# Altium integrated library ReflowOven_INTLIB.IntLib: 18 symbols
Pins are listed as number, name and electrical type; pins without a type are passive.

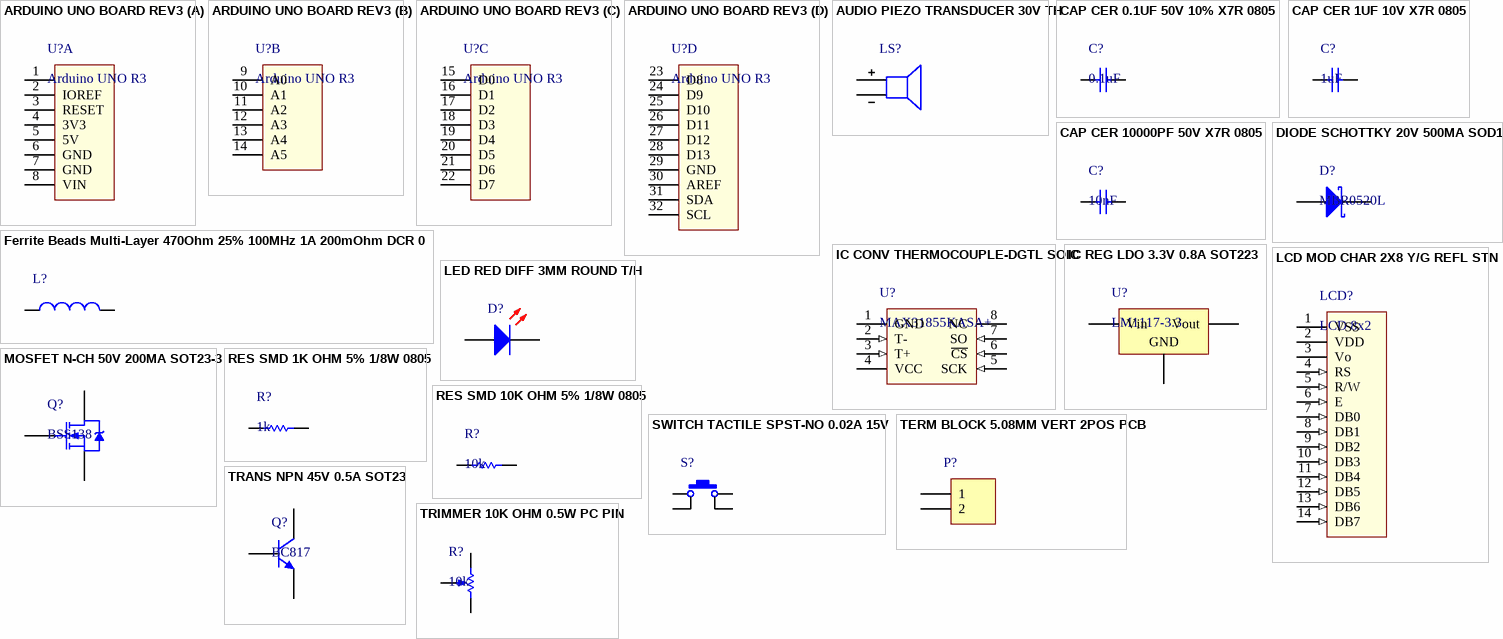
[diagram p0: symbols ARDUINO UNO BOARD REV3 to TRIMMER 10K OHM 0.5W PC PIN]

## ARDUINO UNO BOARD REV3
designator U?, comment Arduino UNO R3
ARDUINO UNO BOARD REV3; Manufacturer Part Number: A000066; Board Type: Evaluation Platform; Core Processor: AVR; For Use With/Related Products: ATmega328P; Contents: Board(s); Supplier 1: Digi-Key; Manufacturer: Arduino; RoHS: RoHS Compliant; Category: Development Boards, Kits, Programmers; Stock 1: 3014; Pricing 1: 1=21.49 (USD); Part Status: Active; Type: MCU 8-Bit; Operating System: -; Platform: Arduino Uno; Mounting Type: Fixed; ComponentLink1URL: http://media.digikey.com/pdf/Data%20Sheets/Arduino%20PDFs/A000046.pdf; ComponentLink1Description: http://media.digikey.com/pdf/Data%20Sheets/Arduino%20PDFs/A000046.pdf; Supplier Part Number 1: 1050-1024-ND
footprint ARDUINO SHIELD
part A pins: 1, 2 IOREF, 3 RESET, 4 3V3, 5 5V, 6 GND, 7 GND, 8 VIN
part B pins: 9 A0, 10 A1, 11 A2, 12 A3, 13 A4, 14 A5
part C pins: 15 D0, 16 D1, 17 D2, 18 D3, 19 D4, 20 D5, 21 D6, 22 D7
part D pins: 23 D8, 24 D9, 25 D10, 26 D11, 27 D12, 28 D13, 29 GND, 30 AREF, 31 SDA, 32 SCL

## AUDIO PIEZO TRANSDUCER 30V TH
designator LS?, comment Buzzer  (value not drawn)
AUDIO PIEZO TRANSDUCER 30V TH; Manufacturer: TDK Corporation; Manufacturer Part Number: PS1240P02BT; Driver Circuitry: Transducer, Externally Driven; Input Type: Zero-Peak Signal; Voltage - Rated: 3V; Voltage Range: 30V (Max); Frequency: 4kHz; Operating Mode: Single Tone; Sound Pressure Level: 60dB @ 3V, 10cm; Port Location: Top; Supplier 1: Digi-Key; RoHS: RoHS Compliant; Category: Audio Products; Stock 1: 23730; Pricing 1: 1=0.72, 10=0.622, 100=0.3889, 250=0.37776 (USD); Packaging: Cut Tape (CT); Part Status: Active; Technology: Piezo; Duration: -; Current - Supply: -; Operating Temperature: -10°C ~ 70°C; Approvals: -; Ratings: -; Mounting Type: Through Hole; Termination: PC Pins; Size / Dimension: 0.480" Dia (12.20mm); Height - Seated (Max): 0.307" (7.80mm); ComponentLink1URL: https://product.tdk.com/info/en/catalog/datasheets/ef532_ps.pdf; ComponentLink1Description: https://product.tdk.com/info/en/catalog/datasheets/ef532_ps.pdf; Supplier Part Number 1: 445-2525-1-ND
footprint BUZZER 12x6MM
pins: 1, 2

## CAP CER 0.1UF 50V 10% X7R 0805
designator C?, comment 0.1uF
CAP CER 0.1UF 50V 10% X7R 0805; Manufacturer: Kyocera / AVX; Manufacturer Part Number: 08055C104KAT2A; Capacitance: 100 nF; Supplier 1: Digikey; Stock 1: 4100743; Pricing 1: 1=0.1, 10=0.036, 25=0.026, 50=0.0194, 100=0.0158, 250=0.0132, 500=0.0113, 1000=0.0089 (USD); Case Size/Dimension: 0805; Dielectric: X7R; Tolerance (%): ±10 %; Rated Voltage: 50 V; ComponentLink1URL: https://datasheet.ciiva.com/150/cx7r-150257.pdf; ComponentLink1Description: https://datasheet.ciiva.com/150/cx7r-150257.pdf; ComponentLink2URL: https://datasheet.ciiva.com/150/cx7r-150258.pdf; ComponentLink2Description: https://datasheet.ciiva.com/150/cx7r-150258.pdf; ComponentLink3URL: https://datasheet.ciiva.com/19475/2009691-19475858.pdf; ComponentLink3Description: https://datasheet.ciiva.com/19475/2009691-19475858.pdf; ComponentLink4URL: https://datasheet.ciiva.com/150/cx7r-150259.pdf; ComponentLink4Description: https://datasheet.ciiva.com/150/cx7r-150259.pdf; ComponentLink5URL: https://datasheet.ciiva.com/11786/0900766b802d4698-11786116.pdf; ComponentLink5Description: https://datasheet.ciiva.com/11786/0900766b802d4698-11786116.pdf; ComponentLink6URL: https://datasheet.ciiva.com/16199/cx7r-16199014.pdf; ComponentLink6Description: https://datasheet.ciiva.com/16199/cx7r-16199014.pdf; ComponentLink7URL: https://datasheet.ciiva.com/16536/cx7r-16536873.pdf; ComponentLink7Description: https://datasheet.ciiva.com/16536/cx7r-16536873.pdf; ComponentLink8URL: https://datasheet.ciiva.com/16536/cx7r-16536875.pdf; ComponentLink8Description: https://datasheet.ciiva.com/16536/cx7r-16536875.pdf; ComponentLink9URL: https://datasheet.ciiva.com/25901/cx7r-25901179.pdf; ComponentLink9Description: https://datasheet.ciiva.com/25901/cx7r-25901179.pdf; ComponentLink10URL: https://datasheet.ciiva.com/11504/cx7r-11504044.pdf; ComponentLink10Description: https://datasheet.ciiva.com/11504/cx7r-11504044.pdf; ComponentLink11URL: https://datasheet.ciiva.com/2988/cx7r-2988014.pdf; ComponentLink11Description: https://datasheet.ciiva.com/2988/cx7r-2988014.pdf; ComponentLink12URL: https://datasheet.ciiva.com/5416/cx7r-5416959.pdf; ComponentLink12Description: https://datasheet.ciiva.com/5416/cx7r-5416959.pdf; ComponentLink13URL: https://datasheet.ciiva.com/7812/cx7r-7812079.pdf; ComponentLink13Description: https://datasheet.ciiva.com/7812/cx7r-7812079.pdf; Supplier Part Number 1: 478-1395-1-ND
footprint CAP 0805 M (Chip Capacitor, 2-Leads, Body 2,00x1,25mm, IPC Low Density)
pins: 1, 2

## CAP CER 1UF 10V X7R 0805
designator C?, comment 1uF
CAP CER 1UF 10V X7R 0805; Manufacturer: Kyocera / AVX; Manufacturer Part Number: 0805ZC105KAT2A; Capacitance: 1 µF; Tolerance (%): ±10 %; Supplier 1: Digikey; Stock 1: 767075; Pricing 1: 1=0.12, 10=0.083, 25=0.0604, 50=0.047, 100=0.039, 250=0.0322, 500=0.0273, 1000=0.0226 (USD); Case Size/Dimension: 0805; Dielectric: X7R; Rated Voltage: 10 V; ComponentLink1URL: https://datasheet.ciiva.com/2988/cx7r-2988071.pdf; ComponentLink1Description: https://datasheet.ciiva.com/2988/cx7r-2988071.pdf; ComponentLink2URL: https://datasheet.ciiva.com/2988/cx7r-2988072.pdf; ComponentLink2Description: https://datasheet.ciiva.com/2988/cx7r-2988072.pdf; ComponentLink3URL: https://datasheet.ciiva.com/14601/70001075-14601048.pdf; ComponentLink3Description: https://datasheet.ciiva.com/14601/70001075-14601048.pdf; ComponentLink4URL: https://datasheet.ciiva.com/14594/70001075-14594329.pdf; ComponentLink4Description: https://datasheet.ciiva.com/14594/70001075-14594329.pdf; ComponentLink5URL: https://datasheet.ciiva.com/25901/cx7r-25901193.pdf; ComponentLink5Description: https://datasheet.ciiva.com/25901/cx7r-25901193.pdf; ComponentLink6URL: https://datasheet.ciiva.com/15165/getdatasheetpartid-71567-15165451.pdf; ComponentLink6Description: https://datasheet.ciiva.com/15165/getdatasheetpartid-71567-15165451.pdf; ComponentLink7URL: https://datasheet.ciiva.com/151/cx7r-151916.pdf; ComponentLink7Description: https://datasheet.ciiva.com/151/cx7r-151916.pdf; ComponentLink8URL: https://datasheet.ciiva.com/151/cx7r-151917.pdf; ComponentLink8Description: https://datasheet.ciiva.com/151/cx7r-151917.pdf; ComponentLink9URL: https://datasheet.ciiva.com/151/cx7r-151918.pdf; ComponentLink9Description: https://datasheet.ciiva.com/151/cx7r-151918.pdf; ComponentLink10URL: https://datasheet.ciiva.com/11787/0900766b80ed4be2-11787102.pdf; ComponentLink10Description: https://datasheet.ciiva.com/11787/0900766b80ed4be2-11787102.pdf; ComponentLink11URL: https://datasheet.ciiva.com/7812/84526-7812223.pdf; ComponentLink11Description: https://datasheet.ciiva.com/7812/84526-7812223.pdf; ComponentLink12URL: https://datasheet.ciiva.com/19475/2011248-19475855.pdf; ComponentLink12Description: https://datasheet.ciiva.com/19475/2011248-19475855.pdf; Supplier Part Number 1: 478-1405-6-ND
footprint CAP 0805 M (Chip Capacitor, 2-Leads, Body 2,00x1,25mm, IPC Low Density)
pins: 1, 2

## CAP CER 10000PF 50V X7R 0805
designator C?, comment 10nF
CAP CER 10000PF 50V X7R 0805; Manufacturer: Kyocera / AVX; Manufacturer Part Number: 0805-5C-103-KAT-2A; Tolerance (%): ±10 %; Supplier 1: Digikey; Stock 1: 595858; Pricing 1: 1=0.1, 10=0.032, 25=0.0232, 50=0.0174, 100=0.0143, 250=0.0119, 500=0.0102, 1000=0.008 (USD); Capacitance: 10 nF; Case Size/Dimension: 0805; Dielectric: X7R; Rated Voltage: 50 V; ComponentLink1URL: https://datasheet.ciiva.com/150/cx7r-150245.pdf; ComponentLink1Description: https://datasheet.ciiva.com/150/cx7r-150245.pdf; ComponentLink2URL: https://datasheet.ciiva.com/150/cx7r-150246.pdf; ComponentLink2Description: https://datasheet.ciiva.com/150/cx7r-150246.pdf; ComponentLink3URL: https://datasheet.ciiva.com/150/cx7r-150247.pdf; ComponentLink3Description: https://datasheet.ciiva.com/150/cx7r-150247.pdf; ComponentLink4URL: https://datasheet.ciiva.com/7812/cx7r-7812071.pdf; ComponentLink4Description: https://datasheet.ciiva.com/7812/cx7r-7812071.pdf; ComponentLink5URL: https://datasheet.ciiva.com/7812/1679506-7812072.pdf; ComponentLink5Description: https://datasheet.ciiva.com/7812/1679506-7812072.pdf; ComponentLink6URL: https://datasheet.ciiva.com/14601/70001075-14601992.pdf; ComponentLink6Description: https://datasheet.ciiva.com/14601/70001075-14601992.pdf; ComponentLink7URL: https://datasheet.ciiva.com/19475/2009421-19475896.pdf; ComponentLink7Description: https://datasheet.ciiva.com/19475/2009421-19475896.pdf; ComponentLink8URL: https://datasheet.ciiva.com/7812/cx7r-7812073.pdf; ComponentLink8Description: https://datasheet.ciiva.com/7812/cx7r-7812073.pdf; ComponentLink9URL: https://datasheet.ciiva.com/11464/cx7r-11464361.pdf; ComponentLink9Description: https://datasheet.ciiva.com/11464/cx7r-11464361.pdf; ComponentLink10URL: https://datasheet.ciiva.com/2988/cx7r-2988011.pdf; ComponentLink10Description: https://datasheet.ciiva.com/2988/cx7r-2988011.pdf; ComponentLink11URL: https://datasheet.ciiva.com/5416/cx7r-218113-5416700.pdf; ComponentLink11Description: https://datasheet.ciiva.com/5416/cx7r-218113-5416700.pdf; ComponentLink12URL: https://datasheet.ciiva.com/14586/70001075-14586685.pdf; ComponentLink12Description: https://datasheet.ciiva.com/14586/70001075-14586685.pdf; ComponentLink13URL: https://datasheet.ciiva.com/11788/0900766b802d4698-11788126.pdf; ComponentLink13Description: https://datasheet.ciiva.com/11788/0900766b802d4698-11788126.pdf; Supplier Part Number 1: 478-1383-6-ND
footprint CAP 0805 M (Chip Capacitor, 2-Leads, Body 2,00x1,25mm, IPC Low Density)
pins: 1, 2

## DIODE SCHOTTKY 20V 500MA SOD123
designator D?, comment MBR0520L
DIODE SCHOTTKY 20V 500MA SOD123; Manufacturer: Fairchild Semiconductor; Rad Hard: No; Type: Schottky Diode; Configuration: Single; Peak Average Forward Current: 0.5 A; Peak Reverse Current: 250 uA; Peak Forward Voltage: 0.385 V; Peak Non-Repetitive Surge Current: 5.5 A; Supplier 1: Digikey; Manufacturer Part Number: MBR0520L; Stock 1: 138987; Pricing 1: 1=0.34, 10=0.281, 100=0.1491, 500=0.0981, 1000=0.0667 (USD); Packaging: Tape & Reel; Package: 2SOD-123; Peak Reverse Repetitive Voltage: 20 V; Operating Temperature: -65 to 125 °C; Mounting: Surface Mount; Category: Rectifier; ComponentLink1URL: https://datasheet.ciiva.com/5739/1684450-5739282.pdf; ComponentLink1Description: https://datasheet.ciiva.com/5739/1684450-5739282.pdf; ComponentLink2URL: https://datasheet.ciiva.com/4714/mbr0520l-67539-4714709.pdf; ComponentLink2Description: https://datasheet.ciiva.com/4714/mbr0520l-67539-4714709.pdf; ComponentLink3URL: https://datasheet.ciiva.com/910/mbr0520l-910540.pdf; ComponentLink3Description: https://datasheet.ciiva.com/910/mbr0520l-910540.pdf; ComponentLink4URL: https://datasheet.ciiva.com/8303/mbr0520l-8303788.pdf; ComponentLink4Description: https://datasheet.ciiva.com/8303/mbr0520l-8303788.pdf; ComponentLink5URL: https://datasheet.ciiva.com/26230/mbr0520l-26230988.pdf; ComponentLink5Description: https://datasheet.ciiva.com/26230/mbr0520l-26230988.pdf; ComponentLink6URL: https://datasheet.ciiva.com/34301/871594-34301628.pdf; ComponentLink6Description: https://datasheet.ciiva.com/34301/871594-34301628.pdf; ComponentLink7URL: https://datasheet.ciiva.com/910/mbr0520l-910541.pdf; ComponentLink7Description: https://datasheet.ciiva.com/910/mbr0520l-910541.pdf; ComponentLink8URL: https://datasheet.ciiva.com/16985/mbr0520l-16985725.pdf; ComponentLink8Description: https://datasheet.ciiva.com/16985/mbr0520l-16985725.pdf; ComponentLink9URL: https://datasheet.ciiva.com/910/mbr0520l-910542.pdf; ComponentLink9Description: https://datasheet.ciiva.com/910/mbr0520l-910542.pdf; ComponentLink10URL: https://datasheet.ciiva.com/7965/48015-7965151.pdf; ComponentLink10Description: https://datasheet.ciiva.com/7965/48015-7965151.pdf; Supplier Part Number 1: MBR0520LCT-ND
footprint SOD123 M (SODFL, 2-Leads, Body 1,60x3,75mm, IPC Low Density)
pins: 1 K, 2 A

## Ferrite Beads Multi-Layer 470Ohm 25% 100MHz 1A 200mOhm DCR 0603 T/R
designator L?, comment 470R  (value not drawn)
Ferrite Beads Multi-Layer 470Ohm 25% 100MHz 1A 200mOhm DCR 0603 T/R; Manufacturer: Murata; Manufacturer Part Number: BLM18PG471SN1D; Product Training Modules: Ferrite Beads and Arrays; Catalog Drawings: BLM18 Series Top BLM18(A,B,E,H,P,R) Series Side; EDA / CAD Models: Download from Accelerated Designs; Filter Type: Power Line; Number of Lines: 1; Impedance @ Frequency: 470 Ohm @ 100MHz; Online Catalog: EMIFIL® BLM18P Series; Kits: 490-5243-ND  - KIT FERRITE CHIP BLM 0603; Other Names: 490-5223-1; Supplier 1: Digikey; Stock 1: 93205; Pricing 1: 1=0.1, 10=0.083, 50=0.0684, 100=0.0501, 250=0.0364, 500=0.0334, 1000=0.0288 (USD); Standard Package: 1; Category: Filters; Family: Ferrite Beads and Chips; Series: BLM18P; Packaging: Cut Tape (CT); Current Rating (Max): 1A; DC Resistance (DCR) (Max): 200 mOhm; Ratings: -; Operating Temperature: -55°C ~ 125°C; Package / Case: 0603 (1608 Metric); Mounting Type: Surface Mount; Height (Max): 0.037" (0.95mm); Size / Dimension: 0.063" L x 0.031" W (1.60mm x 0.80mm); ComponentLink1URL: https://datasheet.ciiva.com/11800/0900766b81275ca5-11800885.pdf; ComponentLink1Description: https://datasheet.ciiva.com/11800/0900766b81275ca5-11800885.pdf; ComponentLink2URL: https://datasheet.ciiva.com/16331/l0110s0100blm18p-16331542.pdf; ComponentLink2Description: https://datasheet.ciiva.com/16331/l0110s0100blm18p-16331542.pdf; ComponentLink3URL: https://datasheet.ciiva.com/8021/1740433-8021497.pdf; ComponentLink3Description: https://datasheet.ciiva.com/8021/1740433-8021497.pdf; ComponentLink4URL: https://datasheet.ciiva.com/6212/l0110s0100blm18p-6212506.pdf; ComponentLink4Description: https://datasheet.ciiva.com/6212/l0110s0100blm18p-6212506.pdf; ComponentLink5URL: https://datasheet.ciiva.com/8021/1740433-8021498.pdf; ComponentLink5Description: https://datasheet.ciiva.com/8021/1740433-8021498.pdf; ComponentLink6URL: https://datasheet.ciiva.com/6212/l0110s0100blm18p-6212508.pdf; ComponentLink6Description: https://datasheet.ciiva.com/6212/l0110s0100blm18p-6212508.pdf; ComponentLink7URL: https://datasheet.ciiva.com/14122/blm-series-eng-tds-14122876.pdf; ComponentLink7Description: https://datasheet.ciiva.com/14122/blm-series-eng-tds-14122876.pdf; ComponentLink8URL: https://datasheet.ciiva.com/6212/l0110s0100blm18p-6212509.pdf; ComponentLink8Description: https://datasheet.ciiva.com/6212/l0110s0100blm18p-6212509.pdf; ComponentLink9URL: https://datasheet.ciiva.com/8508/l0110s0100blm18p-8508303.pdf; ComponentLink9Description: https://datasheet.ciiva.com/8508/l0110s0100blm18p-8508303.pdf; Supplier Part Number 1: 490-5223-1-ND
footprint IND 0603 M (Chip Inductor, 2-Leads, Body 1,60x0,80mm, IPC Low Density)
pins: 1, 2

## IC CONV THERMOCOUPLE-DGTL SOIC
designator U?, comment MAX31855KASA+
IC CONV THERMOCOUPLE-DGTL SOIC; Manufacturer: Maxim; Mfg Application Notes: Modern Thermocouples and a High-Resolution Delta-Sigma ADC Enable High-Precision Temperature Measurement High-Performance Temperature Measurement Using Thermocouples and Precision Delta-Sigma ADCs, Part 2 Analog Integration Drives Factory Integration; Product Training Modules: MAX3185x Thermocouple to Digital Converter Lead (SnPb) Finish for COTS Long-Term Supply Program; Reference Design Library: MAX31855EVKIT#: 14-bit Thermocouple Interface SPI; EDA / CAD Models: Download from Accelerated Designs; Input Type: Thermocouple (Multiple); Output Type: Digital; Interface: SPI; Current - Supply: 900µA; Online Catalog: Sensor and Detector Interfaces; For Use With: 1528-1000-ND / - EVAL BOARD FOR MAX31855 / MAX31855PMB1#-ND / - MODULE PERIPHERAL FOR MAX31855 / MAX31855EVKIT#-ND / - KIT EVAL FOR MAX31855 / 1286-1094-ND / - PMODTC1 MAX31855 DEV / 1568-1292-ND / - SPARKFUN THERMOCOUPLE BREAKOUT -; Other Names: 90-31855+K00; Supplier 1: Digikey; Manufacturer Part Number: MAX31855KASA+; Stock 1: 2137; Pricing 1: 1=4.5, 10=4.27, 50=4.25 (USD); Standard Package: 100; Category: Integrated Circuits (ICs); Family: Interface - Sensor and Detector Interfaces; Packaging: Tube; Type: Thermocouple to Digital Converter; Operating Temperature: -40°C ~ 125°C; Mounting Type: Surface Mount; Package / Case: 8-SOIC (0.154", 3.90mm Width); Supplier Device Package: 8-SOIC; ComponentLink1URL: https://datasheet.ciiva.com/30475/0900766b81252ffc-30475092.pdf; ComponentLink1Description: https://datasheet.ciiva.com/30475/0900766b81252ffc-30475092.pdf; ComponentLink2URL: https://datasheet.ciiva.com/16635/max31855-16635415.pdf; ComponentLink2Description: https://datasheet.ciiva.com/16635/max31855-16635415.pdf; ComponentLink3URL: https://datasheet.ciiva.com/30475/0900766b81252ffc-30475096.pdf; ComponentLink3Description: https://datasheet.ciiva.com/30475/0900766b81252ffc-30475096.pdf; ComponentLink4URL: https://datasheet.ciiva.com/2004/max31855-2004719.pdf; ComponentLink4Description: https://datasheet.ciiva.com/2004/max31855-2004719.pdf; Supplier Part Number 1: MAX31855KASA+-ND
footprint SOIC-8 M (SOIC, 8-Leads, Body 4,90x3,90mm, Pitch 1,27mm, IPC Low Density)
pins: 1 GND (power), 2 T- (in), 3 T+ (in), 4 VCC (power), 5 SCK (in), 6 ~{CS} (in), 7 SO (in), 8 NC

## IC REG LDO 3.3V 0.8A SOT223
designator U?, comment LM1117-3.3
IC REG LDO 3.3V 0.8A SOT223; Manufacturer: Texas Instruments (TI); Manufacturer Part Number: LM1117IMPX-3.3/NOPB; Dropout Voltage@Current (Max): 1.3@100mA/1.35@500mA; Dropout Voltage@Current (Typ): 1.1@100mA/1.15@500mA; Regulator Output Type: Fixed; Polarity Type: Positive; Number of Outputs: 1; Input Voltage: 15V; Output Current: 800mA; Load Regulation: 1mV; Output Voltage Accuracy: ±1%; Quiescent Current (Max): 15mA; Supplier 1: Digikey; Stock 1: 30275; Pricing 1: 1=1.04, 10=0.927, 100=0.7229, 500=0.5978, 1000=0.4728 (USD); Topology: LDO; Voltage Regulator Type: LDO; Output Voltage: 3.3V; Package Type: SOT-223; Packaging: Tape and Reel; Line Regulation: 1mV; Operating Temp Range: -40C to 125C; Operating Temperature Classification: Automotive; Pin Count: 3 +Tab; Mounting: Surface Mount; ComponentLink1URL: https://datasheet.ciiva.com/49047/1882372-49047126.pdf; ComponentLink1Description: https://datasheet.ciiva.com/49047/1882372-49047126.pdf; ComponentLink2URL: https://datasheet.ciiva.com/46386/1882372-46386044.pdf; ComponentLink2Description: https://datasheet.ciiva.com/46386/1882372-46386044.pdf; Supplier Part Number 1: LM1117IMPX-3.3/NOPBDKR-ND
footprint SOT223 M (SOT223, 4-Leads, Body 6,50x7,00mm (avg), Pitch 2,30mm, IPC Low Density)
pins: 1 GND, 2 Vout, 3 Vin

## LCD MOD CHAR 2X8 Y/G REFL STN
designator LCD?, comment LCD 8x2
LCD MOD CHAR 2X8 Y/G REFL STN; Manufacturer: Newhaven Display Intl; Manufacturer Part Number: NHD-0208AZ-RN-YBW-33V; Number of Characters: 16; Character Format: 5 x 8 Dots; Display Type: STN - Super-Twisted Nematic; Display Mode: Reflective; Character Size: 4.75mm H x 2.95mm W; Outline L x W x H: 40.00mm x 35.40mm x 8.00mm; Viewing Area: 30.40mm L x 13.90mm W; Backlight: Without Backlight; Voltage - Supply: 3.3 V ~ 5.5 V; Dot Size: 0.55mm W x 0.55mm H; Interface: Parallel; Text Color: Blue; Background Color: Green; Supplier 1: Digi-Key; RoHS: RoHS Compliant; Category: Optoelectronics; Stock 1: 143; Pricing 1: 1=8.25, 5=7.756, 10=7.26, 50=6.8476, 100=6.5175, 250=6.18752, 500=5.94002 (USD); Part Status: Active; Display Format: 8 x 2; Operating Temperature: -20°C ~ 70°C; ComponentLink1URL: http://www.newhavendisplay.com/specs/NHD-0208AZ-RN-YBW-33V.pdf; ComponentLink1Description: http://www.newhavendisplay.com/specs/NHD-0208AZ-RN-YBW-33V.pdf; Supplier Part Number 1: NHD-0208AZ-RN-YBW-33V-ND
footprint LCD 2X8
pins: 1 VSS (power), 2 VDD (power), 3 Vo, 4 RS (in), 5 R/W (in), 6 E (in), 7 DB0 (in), 8 DB1 (in), 9 DB2 (in), 10 DB3 (in), 11 DB4 (in), 12 DB5 (in), 13 DB6 (in), 14 DB7 (in)

## LED RED DIFF 3MM ROUND T/H
designator D?, comment Red  (value not drawn)
LED RED DIFF 3MM ROUND T/H; Manufacturer: Lite-On Inc.; Manufacturer Part Number: LTL-4221N; Lens Transparency: Diffused; Millicandela Rating: 8.7mcd; Lens Style/Size: Round with Domed Top, 3mm (T-1), 3.00mm; Voltage - Forward (Vf) (Typ): 2V; Current - Test: 10mA; Viewing Angle: 60°; Wavelength - Dominant: 625nm; Wavelength - Peak: 635nm; Supplier 1: Digi-Key; RoHS: RoHS Compliant; Category: Optoelectronics; Stock 1: 44293; Pricing 1: 1=0.36, 10=0.262, 25=0.1932, 100=0.138, 250=0.09384, 500=0.0828, 1000=0.06486, 2500=0.06348, 5000=0.0552 (USD); Packaging: Bulk; Part Status: Active; Color: Red; Lens Color: Red; Mounting Type: Through Hole; Features: -; Package / Case: Radial; Supplier Device Package: T-1; Size / Dimension: -; Height (Max): 5.85mm; ComponentLink1URL: http://optoelectronics.liteon.com/upload/download/DS-20-92-0237/S_110_LTL-4221N.pdf; ComponentLink1Description: http://optoelectronics.liteon.com/upload/download/DS-20-92-0237/S_110_LTL-4221N.pdf; Supplier Part Number 1: 160-1139-ND
footprint LED 3mm RED (LED 3mm)
pins: 1 A, 2 K

## MOSFET N-CH 50V 200MA SOT23-3
designator Q?, comment BSS138
MOSFET N-CH 50V 200MA SOT23-3; Manufacturer: Diodes; Manufacturer Part Number: BSS138-7-F; Catalog Drawings: SOT-23 Package Top SOT-23 Package Side 1 SOT-23 Package Side 2; PCN Design/Specification: Green Encapsulate 15/May/2008 Bond Wire 16/Sept/2008 Bond Wire 11/Nov/2011; PCN Assembly/Origin: Plating Site Addition 29/Jul/2015; EDA / CAD Models: Download from Accelerated Designs; FET Type: MOSFET N-Channel, Metal Oxide; FET Feature: Standard; Current - Continuous Drain (Id) @ 25°C: 200mA (Ta); Rds On (Max) @ Id, Vgs: 3.5 Ohm @ 220mA, 10V; Vgs(th) (Max) @ Id: 1.5V @ 250µA; Input Capacitance (Ciss) @ Vds: 50pF @ 10V; Power - Max: 300mW; Online Catalog: N-Channel Standard FETs; Other Names: BSS138-FDITR  BSS1387F; Supplier 1: Digikey; Stock 1: 105603; Pricing 1: 1=0.34, 10=0.277, 100=0.1468, 500=0.0966, 1000=0.0657 (USD); RoHS Information: RoHS Cert of Compliance; Standard Package: 3,000; Category: Discrete Semiconductor Products; Family: Transistors - FETs, MOSFETs - Single; Series: -; Packaging: Tape & Reel (TR); Drain to Source Voltage (Vdss): 50V; Gate Charge (Qg) @ Vgs: -; Operating Temperature: -55°C ~ 150°C (TJ); Mounting Type: Surface Mount; Package / Case: TO-236-3, SC-59, SOT-23-3; Supplier Device Package: SOT-23-3; ComponentLink1URL: https://datasheet.ciiva.com/8115/ds30144-8115344.pdf; ComponentLink1Description: https://datasheet.ciiva.com/8115/ds30144-8115344.pdf; ComponentLink2URL: https://datasheet.ciiva.com/1190/ds30144-1190129.pdf; ComponentLink2Description: https://datasheet.ciiva.com/1190/ds30144-1190129.pdf; ComponentLink3URL: https://datasheet.ciiva.com/25900/ds30144-25900327.pdf; ComponentLink3Description: https://datasheet.ciiva.com/25900/ds30144-25900327.pdf; ComponentLink4URL: https://datasheet.ciiva.com/8115/ds30144-8115289.pdf; ComponentLink4Description: https://datasheet.ciiva.com/8115/ds30144-8115289.pdf; ComponentLink5URL: https://datasheet.ciiva.com/934/ds30144-934523.pdf; ComponentLink5Description: https://datasheet.ciiva.com/934/ds30144-934523.pdf; ComponentLink6URL: https://datasheet.ciiva.com/934/ds30144-934524.pdf; ComponentLink6Description: https://datasheet.ciiva.com/934/ds30144-934524.pdf; ComponentLink7URL: https://datasheet.ciiva.com/934/ds30144-934525.pdf; ComponentLink7Description: https://datasheet.ciiva.com/934/ds30144-934525.pdf; ComponentLink8URL: https://datasheet.ciiva.com/16388/ds30144-16388895.pdf; ComponentLink8Description: https://datasheet.ciiva.com/16388/ds30144-16388895.pdf; Supplier Part Number 1: BSS138-FDICT-ND
footprint SOT23-3 M (SOT23, 3-Leads, Body 2,90x2,30mm, Pitch 0,95mm, IPC Low Density)
pins: 1 G, 2 S, 3 D

## RES SMD 1K OHM 5% 1/8W 0805
designator R?, comment 1k
RES SMD 1K OHM 5% 1/8W 0805; Manufacturer: Panasonic Electronic Components; Manufacturer Part Number: ERJ-6GEYJ102V; Power (Watts): 0.125W, 1/8W; Temperature Coefficient: ±200ppm/°C; Supplier 1: Digi-Key; RoHS: RoHS Compliant; Category: Resistors; Stock 1: 1035785; Pricing 1: 1=0.1, 10=0.025, 25=0.018, 50=0.0136, 100=0.01, 250=0.00764, 500=0.00612, 1000=0.00451 (USD); Packaging: Cut Tape (CT); Part Status: Active; Resistance (Ohms): 1k; Tolerance: ±5%; Composition: Thick Film; Features: Automotive AEC-Q200; Operating Temperature: -55°C ~ 155°C; Package / Case: 0805 (2012 Metric); Supplier Device Package: 0805; Size / Dimension: 0.079" L x 0.049" W (2.00mm x 1.25mm); Height - Seated (Max): 0.028" (0.70mm); Number of Terminations: 2; Failure Rate: -; ComponentLink1URL: http://industrial.panasonic.com/www-cgi/jvcr13pz.cgi?E+PZ+3+AOA0001+ERJ6GEYJ102V+7+WW; ComponentLink1Description: http://industrial.panasonic.com/www-cgi/jvcr13pz.cgi?E+PZ+3+AOA0001+ERJ6GEYJ102V+7+WW; Supplier Part Number 1: P1.0KACT-ND
footprint RES 0805 M (Chip Resistor, 2-Leads, Body 2,00x1,25mm, IPC Low Density)
pins: 1, 2

## RES SMD 10K OHM 5% 1/8W 0805
designator R?, comment 10k
RES SMD 10K OHM 5% 1/8W 0805; Manufacturer: Panasonic Electronic Components; Manufacturer Part Number: ERJ-6GEYJ103V; Power (Watts): 0.125W, 1/8W; Temperature Coefficient: ±200ppm/°C; Supplier 1: Digi-Key; RoHS: RoHS Compliant; Category: Resistors; Stock 1: 2235262; Pricing 1: 1=0.1, 10=0.025, 25=0.018, 50=0.0136, 100=0.01, 250=0.00764, 500=0.00612, 1000=0.00451 (USD); Packaging: Cut Tape (CT); Part Status: Active; Resistance (Ohms): 10k; Tolerance: ±5%; Composition: Thick Film; Features: Automotive AEC-Q200; Operating Temperature: -55°C ~ 155°C; Package / Case: 0805 (2012 Metric); Supplier Device Package: 0805; Size / Dimension: 0.079" L x 0.049" W (2.00mm x 1.25mm); Height - Seated (Max): 0.028" (0.70mm); Number of Terminations: 2; Failure Rate: -; ComponentLink1URL: http://industrial.panasonic.com/www-cgi/jvcr13pz.cgi?E+PZ+3+AOA0001+ERJ6GEYJ103V+7+WW; ComponentLink1Description: http://industrial.panasonic.com/www-cgi/jvcr13pz.cgi?E+PZ+3+AOA0001+ERJ6GEYJ103V+7+WW; Supplier Part Number 1: P10KACT-ND
footprint RES 0805 M (Chip Resistor, 2-Leads, Body 2,00x1,25mm, IPC Low Density)
pins: 1, 2

## SWITCH TACTILE SPST-NO 0.02A 15V
designator S?, comment SPST-NO  (value not drawn)
SWITCH TACTILE SPST-NO 0.02A 15V; Manufacturer: Panasonic Electronic Components; Manufacturer Part Number: EVQ-PAC07K; Switch Function: Off-Mom; Contact Rating @ Voltage: 0.02A @ 15VDC; Actuator Type: Standard; Actuator Height off PCB, from Pins: 7.00mm; Actuator Orientation: Top Actuated; Outline: 6.00mm x 6.00mm; Illumination: Non-Illuminated; Operating Force: 100gf; Switch Travel: 0.25mm; Mechanical Life: 100,000 Cycles; Supplier 1: Digi-Key; RoHS: RoHS Compliant; Category: Switches; Stock 1: 19805; Pricing 1: 1=0.27, 10=0.254, 25=0.2168, 50=0.1896, 100=0.176, 250=0.15572, 500=0.14894, 1000=0.12186, 5000=0.10832 (USD); Packaging: Bulk; Part Status: Active; Circuit: SPST-NO; Mounting Type: Through Hole; Termination Style: PC Pin; Illumination Voltage (Nominal): -; Illumination Type, Color: -; Ingress Protection: -; Features: -; Actuator Material: -; Operating Temperature: -20°C ~ 70°C; ComponentLink1URL: http://industrial.panasonic.com/cdbs/www-data/pdf/ATK0000/ATK0000CE10.pdf; ComponentLink1Description: http://industrial.panasonic.com/cdbs/www-data/pdf/ATK0000/ATK0000CE10.pdf; Supplier Part Number 1: P8011S-ND
footprint TACT SWITCH 6X6X7MM (Tactile Switch 6x6x7mm)
pins: 1, 2, 3, 4

## TERM BLOCK 5.08MM VERT 2POS PCB
designator P?, comment BORNE 2POS  (value not drawn)
TERM BLOCK 5.08MM VERT 2POS PCB; Manufacturer: On Shore Technology Inc.; Manufacturer Part Number: OSTTC022162; Number of Levels: 1; Positions Per Level: 2; Pitch: 0.200" (5.08mm); Mating Orientation: Horizontal with Board; Current: 15A; Voltage: 300V; Wire Gauge: 14-22 AWG; Wire Termination: Screw - Leaf Spring, Wire Guard; Clamp Material - Plating: Steel, Stainless; Screw Material - Plating: Steel - Zinc Plated; Torque - Screw: 0.3 Nm (2.6 Lb-In); Screw Thread: M2.6; Supplier 1: Digi-Key; RoHS: RoHS Compliant; Category: Connectors, Interconnects; Stock 1: 58204; Pricing 1: 1=0.42, 10=0.399, 50=0.2908, 100=0.2793, 250=0.2508, 500=0.2394, 1000=0.1995, 2500=0.1824, 5000=0.171 (USD); Packaging: Bulk; Part Status: Active; Mounting Type: Through Hole; Features: Interlocking (Side); Color: Blue; Operating Temperature: -30°C ~ 105°C; Housing Material: Thermoplastic; Contact Material - Plating: Tin Plated; ComponentLink1URL: http://www.on-shore.com/wp-content/uploads/2015/09/osttcxx2162.pdf; ComponentLink1Description: http://www.on-shore.com/wp-content/uploads/2015/09/osttcxx2162.pdf; Supplier Part Number 1: ED2609-ND
footprint TERM BLOCK 5.08MM 2POS
pins: 1, 2

## TRANS NPN 45V 0.5A SOT23
designator Q?, comment BC817
TRANS NPN 45V 0.5A SOT23; Manufacturer: NXP USA Inc.; Manufacturer Part Number: BC817-40,215; Current - Collector (Ic) (Max): 500mA; Vce Saturation (Max) @ Ib, Ic: 700mV @ 50mA, 500mA; Current - Collector Cutoff (Max): 100nA (ICBO); DC Current Gain (hFE) (Min) @ Ic, Vce: 250 @ 100mA, 1V; Power - Max: 250mW; Frequency - Transition: 100MHz; Supplier 1: Digi-Key; RoHS: RoHS Compliant; Category: Discrete Semiconductor Products; Stock 1: 97485; Pricing 1: 1=0.14, 10=0.127, 100=0.0692, 500=0.0426, 1000=0.02904 (USD); Packaging: Cut Tape (CT); Part Status: Active; Transistor Type: NPN; Voltage - Collector Emitter Breakdown (Max): 45V; Operating Temperature: 150°C (TJ); Mounting Type: Surface Mount; Package / Case: TO-236-3, SC-59, SOT-23-3; Supplier Device Package: SOT-23 (TO-236AB); ComponentLink1URL: http://www.nxp.com/documents/data_sheet/BC817_BC817W_BC337.pdf; ComponentLink1Description: http://www.nxp.com/documents/data_sheet/BC817_BC817W_BC337.pdf; Supplier Part Number 1: 568-1631-1-ND
footprint SOT23-3 M (SOT23, 3-Leads, Body 2,90x2,30mm, Pitch 0,95mm, IPC Low Density)
pins: 1 B, 2 E, 3 C

## TRIMMER 10K OHM 0.5W PC PIN
designator R?, comment 10k
TRIMMER 10K OHM 0.5W PC PIN; Manufacturer: Bourns Inc.; Manufacturer Part Number: 3386P-1-103LF; Power (Watts): 0.5W, 1/2W; Tolerance: ±10%; Temperature Coefficient: ±100ppm/°C; Number of Turns: 1; Adjustment Type: Top Adjustment; Resistive Material: Cermet; Supplier 1: Digi-Key; RoHS: RoHS Compliant; Category: Potentiometers, Variable Resistors; Stock 1: 12594; Pricing 1: 1=1.6, 10=1.41, 25=1.2692, 50=1.222, 100=1.175, 250=1.10452, 500=0.94, 1000=0.8695, 5000=0.7144 (USD); Packaging: Tube; Part Status: Active; Resistance (Ohms): 10k; Mounting Type: Through Hole; Termination Style: PC Pins; Size / Dimension: Square - 0.375" x 0.375" Face x 0.190" H (9.53mm x 9.53mm x 4.83mm); ComponentLink1URL: http://www.bourns.com/docs/Product-Datasheets/3386.pdf; ComponentLink1Description: http://www.bourns.com/docs/Product-Datasheets/3386.pdf; Supplier Part Number 1: 3386P-103LF-ND
footprint TRIMPOT 3386 (Trimming Potentiometer; 3 leads; Vertical; Flat)
pins: 1 TOP, 2 TAP, 3 BOT